# EAGLE library part LGDM1602N1 (library lcd)
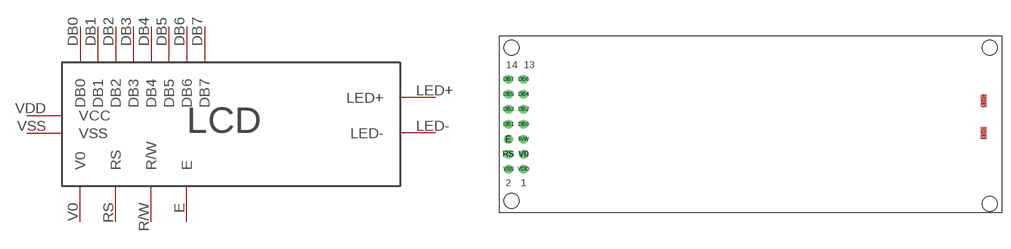
[diagram p0: symbol with the pads of GDM1602N1; footprint GDM1602N1]

Designator prefix -

## LGDM1602N1  [GDM1602N1]
DB0  DB0
DB1  DB1
DB2  DB2
DB3  DB3
DB4  DB4
DB5  DB5
DB6  DB6
DB7  DB7
E  E
LED+  LED+
LED-  LED-
R/W  R/W
RS  RS
V0  V0
VDD  VCC
VSS  VSS

## Footprint GDM1602N1 (pad centres in mm)
drill 1: DB0 -38.46,0; DB1 -41,0; DB2 -38.46,2.54; DB3 -41,2.54; DB4 -38.46,5.08; DB5 -41,5.08; DB6 -38.46,7.62; DB7 -41,7.62; E -41,-2.54; R/W -38.46,-2.54; RS -41,-5.08; V0 -38.46,-5.08; VDD -38.46,-7.62; VSS -41,-7.62
smd 1 x 2: LED+ 39.5,4; LED- 39.5,-1.5
hole 2.5 at -40.5,-13
hole 2.5 at -40.5,13
hole 2.5 at 40.5,13
hole 2.5 at 40.5,-13.5